# Altium footprint library Connector.PcbLib: 5 footprints
Each footprint in its own frame and in the unit in brackets; x right, y up, seen from the top. Pads: shape width x height; smd on the part's side, far side on the other; paste and mask are expansions set on the pad; w line width, h text height; cw(c..) or ccw(c..) is an arc to the next point about the centre after c.
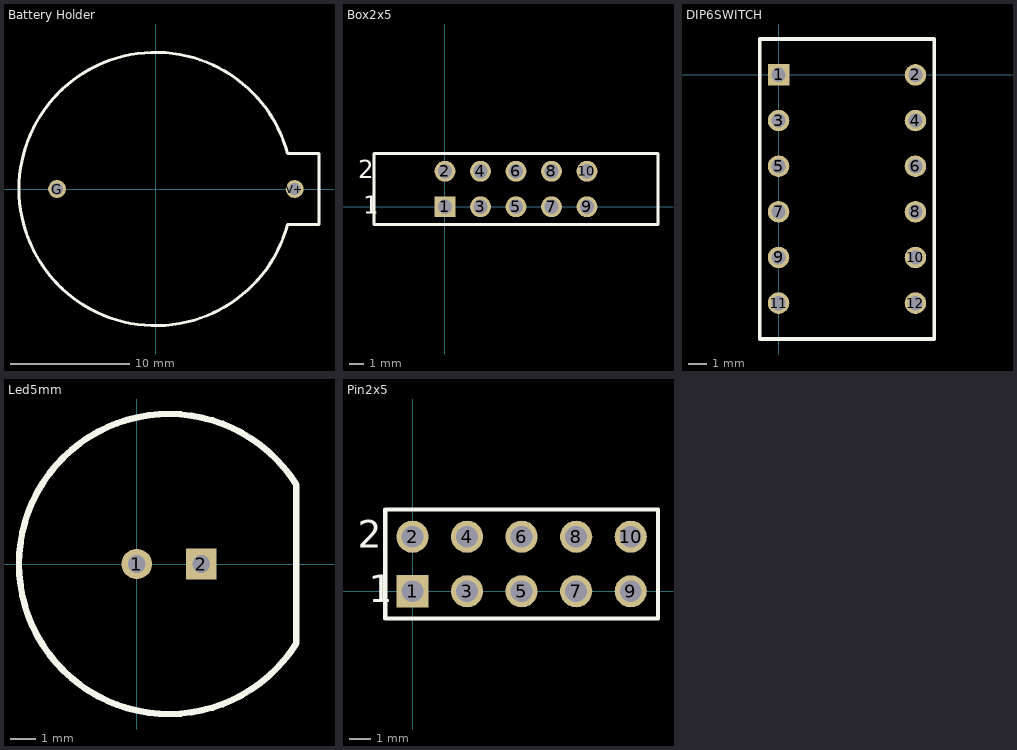
[diagram p0: the footprints below, top view; thin cyan lines are the x and y axes]

## Battery Holder [mm]
pads (2):
  round 1.5 hole 1: G(-8.3,0) V+(11.7,0)
Top Overlay:
  lines w0.254: 11.1,-3 13.75,-3 13.75,3 11.1,3 ; 11.102,-3 cw(c0,0) 11.102,3

## Box2x5 [mm] "Connector; Header; 5x2 Position"
pads (10):
  rect 1.5x1.5 hole 1.02: 1(0,0)
  round 1.5 hole 1.02: 2(0,2.54) 3(2.54,0) 4(2.54,2.54) 5(5.08,0) 6(5.08,2.54) 7(7.62,0) 8(7.62,2.54) 9(10.16,0) 10(10.16,2.54)
Top Overlay:
  lines w0.2: -5.08,-1.27 -5.08,3.81 15.24,3.81 15.24,-1.27 -5.08,-1.27
  text "2" at -6.223,2.032 h1.27
  text "1" at -5.842,-0.508 h1.27

## DIP6SWITCH [mm]
pads (12):
  rect 1.2x1.2 hole 0.8: 1(0,0)
  round 1.2 hole 0.8: 2(7.62,0) 3(0,-2.54) 4(7.62,-2.54) 5(0,-5.08) 6(7.62,-5.08) 7(0,-7.62) 8(7.62,-7.62) 9(0,-10.16) 10(7.62,-10.16) 11(0,-12.7) 12(7.62,-12.7)
Top Overlay:
  lines w0.2: -1.04,-14.7 8.66,-14.7 8.66,2 -1.04,2 -1.04,-14.7

## Led5mm [mm]
height 8.6
pads (2):
  round 1.2 hole 0.7: 1(0,0)
  rect 1.2x1.2 hole 0.7: 2(2.54,0)
Top Overlay:
  lines w0.254: 6.273,-3.127 cw(c1.27,0) 6.273,3.127 ; 6.274,-3.124 6.274,3.124

## Pin2x5 [mm] "Connector; Header; 5x2 Position"
pads (10):
  rect 1.5x1.5 hole 1.02: 1(0,0)
  round 1.5 hole 1.02: 2(0,2.54) 3(2.54,0) 4(2.54,2.54) 5(5.08,0) 6(5.08,2.54) 7(7.62,0) 8(7.62,2.54) 9(10.16,0) 10(10.16,2.54)
Top Overlay:
  lines w0.2: -1.27,-1.27 -1.27,3.81 11.43,3.81 11.43,-1.27 -1.27,-1.27
  text "2" at -2.54,2.032 h1.27
  text "1" at -2.032,-0.508 h1.27